# Altium footprint library Connector_PinHeader_2.00mm.PcbLib: 278 footprints (part 10 of 18)
Each footprint in its own frame and in the unit in brackets; x right, y up, seen from the top. Pads: shape width x height; smd on the part's side, far side on the other; paste and mask are expansions set on the pad; w line width, h text height; cw(c..) or ccw(c..) is an arc to the next point about the centre after c.
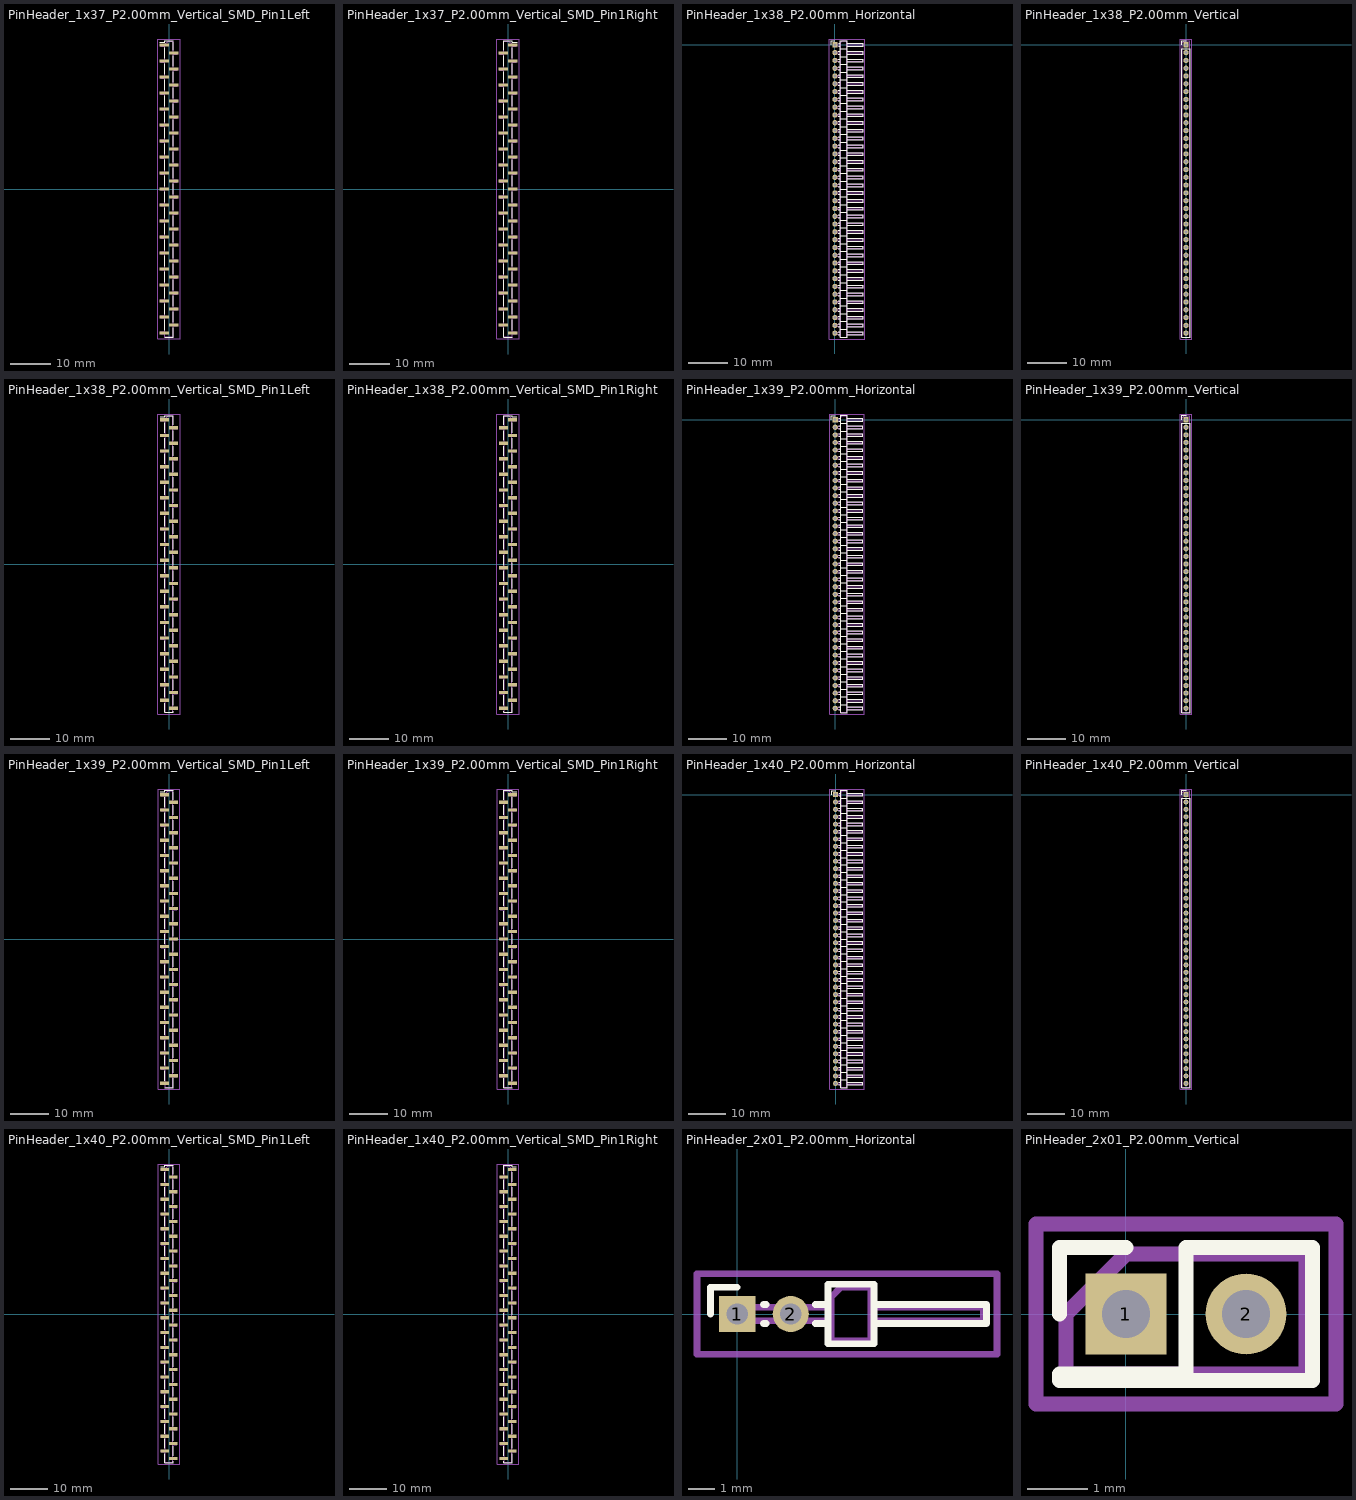
[diagram p9: the footprints below, top view; thin cyan lines are the x and y axes]

## PinHeader_1x37_P2.00mm_Vertical_SMD_Pin1Left [mm]
pads (37):
  rect 2.35x0.85 smd: 1(-1.175,36) 2(1.175,34) 3(-1.175,32) 4(1.175,30) 5(-1.175,28) 6(1.175,26) 7(-1.175,24) 8(1.175,22) 9(-1.175,20) 10(1.175,18) 11(-1.175,16) 12(1.175,14) 13(-1.175,12) 14(1.175,10) 15(-1.175,8) 16(1.175,6) 17(-1.175,4) 18(1.175,2) 19(-1.175,0) 20(1.175,-2) 21(-1.175,-4) 22(1.175,-6) 23(-1.175,-8) 24(1.175,-10) 25(-1.175,-12) 26(1.175,-14) 27(-1.175,-16) 28(1.175,-18) 29(-1.175,-20) 30(1.175,-22) 31(-1.175,-24) 32(1.175,-26) 33(-1.175,-28) 34(1.175,-30) 35(-1.175,-32) 36(1.175,-34) 37(-1.175,-36)
F.SilkS:
  lines w0.254: -2.29,36.735 -1.11,36.735 -1.11,37.11 1.11,37.11 ; -1.11,-37.11 1.11,-37.11 ; -1.11,-35.265 -1.11,-32.735 ; -1.11,-31.265 -1.11,-28.735 ; -1.11,-27.265 -1.11,-24.735 ; -1.11,-23.265 -1.11,-20.735 ; -1.11,-19.265 -1.11,-16.735 ; -1.11,-15.265 -1.11,-12.735 ; -1.11,-11.265 -1.11,-8.735 ; -1.11,-7.265 -1.11,-4.735 ; -1.11,-3.265 -1.11,-0.735 ; -1.11,0.735 -1.11,3.265 ; -1.11,4.735 -1.11,7.265 ; -1.11,8.735 -1.11,11.265 ; -1.11,12.735 -1.11,15.265 ; -1.11,16.735 -1.11,19.265 ; -1.11,20.735 -1.11,23.265 ; -1.11,24.735 -1.11,27.265 ; -1.11,28.735 -1.11,31.265 ; -1.11,32.735 -1.11,35.265 ; 1.11,-36.735 1.11,-37.11 ; 1.11,-34.735 1.11,-37.11 ; 1.11,-33.265 1.11,-30.735 ; 1.11,-29.265 1.11,-26.735 ; 1.11,-25.265 1.11,-22.735 ; 1.11,-21.265 1.11,-18.735 ; 1.11,-17.265 1.11,-14.735 ; 1.11,-13.265 1.11,-10.735 ; 1.11,-9.265 1.11,-6.735 ; 1.11,-5.265 1.11,-2.735 ; 1.11,-1.265 1.11,1.265 ; 1.11,2.735 1.11,5.265 ; 1.11,6.735 1.11,9.265 ; 1.11,10.735 1.11,13.265 ; 1.11,14.735 1.11,17.265 ; 1.11,18.735 1.11,21.265 ; 1.11,22.735 1.11,25.265 ; 1.11,26.735 1.11,29.265 ; 1.11,30.735 1.11,33.265 ; 1.11,34.735 1.11,36.735
Top Assembly:
  lines w0.254: -1,-36.25 -2.1,-36.25 -2.1,-35.75 -1,-35.75 ; -1,-32.25 -2.1,-32.25 -2.1,-31.75 -1,-31.75 ; -1,-28.25 -2.1,-28.25 -2.1,-27.75 -1,-27.75 ; -1,-24.25 -2.1,-24.25 -2.1,-23.75 -1,-23.75 ; -1,-20.25 -2.1,-20.25 -2.1,-19.75 -1,-19.75 ; -1,-16.25 -2.1,-16.25 -2.1,-15.75 -1,-15.75 ; -1,-12.25 -2.1,-12.25 -2.1,-11.75 -1,-11.75 ; -1,-8.25 -2.1,-8.25 -2.1,-7.75 -1,-7.75 ; -1,-4.25 -2.1,-4.25 -2.1,-3.75 -1,-3.75 ; -1,-0.25 -2.1,-0.25 -2.1,0.25 -1,0.25 ; -1,3.75 -2.1,3.75 -2.1,4.25 -1,4.25 ; -1,7.75 -2.1,7.75 -2.1,8.25 -1,8.25 ; -1,11.75 -2.1,11.75 -2.1,12.25 -1,12.25 ; -1,15.75 -2.1,15.75 -2.1,16.25 -1,16.25 ; -1,19.75 -2.1,19.75 -2.1,20.25 -1,20.25 ; -1,23.75 -2.1,23.75 -2.1,24.25 -1,24.25 ; -1,27.75 -2.1,27.75 -2.1,28.25 -1,28.25 ; -1,31.75 -2.1,31.75 -2.1,32.25 -1,32.25 ; -1,35.75 -2.1,35.75 -2.1,36.25 -1,36.25 ; 1,-34.25 2.1,-34.25 2.1,-33.75 1,-33.75 ; 1,-30.25 2.1,-30.25 2.1,-29.75 1,-29.75 ; 1,-26.25 2.1,-26.25 2.1,-25.75 1,-25.75 ; 1,-22.25 2.1,-22.25 2.1,-21.75 1,-21.75 ; 1,-18.25 2.1,-18.25 2.1,-17.75 1,-17.75 ; 1,-14.25 2.1,-14.25 2.1,-13.75 1,-13.75 ; 1,-10.25 2.1,-10.25 2.1,-9.75 1,-9.75 ; 1,-6.25 2.1,-6.25 2.1,-5.75 1,-5.75 ; 1,-2.25 2.1,-2.25 2.1,-1.75 1,-1.75 ; 1,1.75 2.1,1.75 2.1,2.25 1,2.25 ; 1,5.75 2.1,5.75 2.1,6.25 1,6.25 ; 1,9.75 2.1,9.75 2.1,10.25 1,10.25 ; 1,13.75 2.1,13.75 2.1,14.25 1,14.25 ; 1,17.75 2.1,17.75 2.1,18.25 1,18.25 ; 1,21.75 2.1,21.75 2.1,22.25 1,22.25 ; 1,25.75 2.1,25.75 2.1,26.25 1,26.25 ; 1,29.75 2.1,29.75 2.1,30.25 1,30.25 ; 1,33.75 2.1,33.75 2.1,34.25 1,34.25 ; -1,36.25 -1,-37 1,-37 1,37 -0.25,37 -1,36.25
  text "'.Designator'" at 0.84,-4.047 h1
Top Courtyard:
  lines w0.254: -2.85,-37.5 2.85,-37.5 2.85,37.5 -2.85,37.5 -2.85,-37.5
Top Designator:
  text ".Designator" at -7.618,-0.508 h1.52

## PinHeader_1x37_P2.00mm_Vertical_SMD_Pin1Right [mm]
pads (37):
  rect 2.35x0.85 smd: 1(1.175,36) 2(-1.175,34) 3(1.175,32) 4(-1.175,30) 5(1.175,28) 6(-1.175,26) 7(1.175,24) 8(-1.175,22) 9(1.175,20) 10(-1.175,18) 11(1.175,16) 12(-1.175,14) 13(1.175,12) 14(-1.175,10) 15(1.175,8) 16(-1.175,6) 17(1.175,4) 18(-1.175,2) 19(1.175,0) 20(-1.175,-2) 21(1.175,-4) 22(-1.175,-6) 23(1.175,-8) 24(-1.175,-10) 25(1.175,-12) 26(-1.175,-14) 27(1.175,-16) 28(-1.175,-18) 29(1.175,-20) 30(-1.175,-22) 31(1.175,-24) 32(-1.175,-26) 33(1.175,-28) 34(-1.175,-30) 35(1.175,-32) 36(-1.175,-34) 37(1.175,-36)
F.SilkS:
  lines w0.254: -1.11,-36.735 -1.11,-37.11 ; -1.11,-34.735 -1.11,-37.11 ; -1.11,-33.265 -1.11,-30.735 ; -1.11,-29.265 -1.11,-26.735 ; -1.11,-25.265 -1.11,-22.735 ; -1.11,-21.265 -1.11,-18.735 ; -1.11,-17.265 -1.11,-14.735 ; -1.11,-13.265 -1.11,-10.735 ; -1.11,-9.265 -1.11,-6.735 ; -1.11,-5.265 -1.11,-2.735 ; -1.11,-1.265 -1.11,1.265 ; -1.11,2.735 -1.11,5.265 ; -1.11,6.735 -1.11,9.265 ; -1.11,10.735 -1.11,13.265 ; -1.11,14.735 -1.11,17.265 ; -1.11,18.735 -1.11,21.265 ; -1.11,22.735 -1.11,25.265 ; -1.11,26.735 -1.11,29.265 ; -1.11,30.735 -1.11,33.265 ; -1.11,36.735 -1.11,34.735 -1.11,37.11 1.11,37.11 1.11,36.735 2.29,36.735 ; 1.11,-37.11 -1.11,-37.11 ; 1.11,-35.265 1.11,-32.735 ; 1.11,-31.265 1.11,-28.735 ; 1.11,-27.265 1.11,-24.735 ; 1.11,-23.265 1.11,-20.735 ; 1.11,-19.265 1.11,-16.735 ; 1.11,-15.265 1.11,-12.735 ; 1.11,-11.265 1.11,-8.735 ; 1.11,-7.265 1.11,-4.735 ; 1.11,-3.265 1.11,-0.735 ; 1.11,0.735 1.11,3.265 ; 1.11,4.735 1.11,7.265 ; 1.11,8.735 1.11,11.265 ; 1.11,12.735 1.11,15.265 ; 1.11,16.735 1.11,19.265 ; 1.11,20.735 1.11,23.265 ; 1.11,24.735 1.11,27.265 ; 1.11,28.735 1.11,31.265 ; 1.11,32.735 1.11,35.265
Top Assembly:
  lines w0.254: -1,-34.25 -2.1,-34.25 -2.1,-33.75 -1,-33.75 ; -1,-30.25 -2.1,-30.25 -2.1,-29.75 -1,-29.75 ; -1,-26.25 -2.1,-26.25 -2.1,-25.75 -1,-25.75 ; -1,-22.25 -2.1,-22.25 -2.1,-21.75 -1,-21.75 ; -1,-18.25 -2.1,-18.25 -2.1,-17.75 -1,-17.75 ; -1,-14.25 -2.1,-14.25 -2.1,-13.75 -1,-13.75 ; -1,-10.25 -2.1,-10.25 -2.1,-9.75 -1,-9.75 ; -1,-6.25 -2.1,-6.25 -2.1,-5.75 -1,-5.75 ; -1,-2.25 -2.1,-2.25 -2.1,-1.75 -1,-1.75 ; -1,1.75 -2.1,1.75 -2.1,2.25 -1,2.25 ; -1,5.75 -2.1,5.75 -2.1,6.25 -1,6.25 ; -1,9.75 -2.1,9.75 -2.1,10.25 -1,10.25 ; -1,13.75 -2.1,13.75 -2.1,14.25 -1,14.25 ; -1,17.75 -2.1,17.75 -2.1,18.25 -1,18.25 ; -1,21.75 -2.1,21.75 -2.1,22.25 -1,22.25 ; -1,25.75 -2.1,25.75 -2.1,26.25 -1,26.25 ; -1,29.75 -2.1,29.75 -2.1,30.25 -1,30.25 ; -1,33.75 -2.1,33.75 -2.1,34.25 -1,34.25 ; 1,-36.25 2.1,-36.25 2.1,-35.75 1,-35.75 ; 1,-32.25 2.1,-32.25 2.1,-31.75 1,-31.75 ; 1,-28.25 2.1,-28.25 2.1,-27.75 1,-27.75 ; 1,-24.25 2.1,-24.25 2.1,-23.75 1,-23.75 ; 1,-20.25 2.1,-20.25 2.1,-19.75 1,-19.75 ; 1,-16.25 2.1,-16.25 2.1,-15.75 1,-15.75 ; 1,-12.25 2.1,-12.25 2.1,-11.75 1,-11.75 ; 1,-8.25 2.1,-8.25 2.1,-7.75 1,-7.75 ; 1,-4.25 2.1,-4.25 2.1,-3.75 1,-3.75 ; 1,-0.25 2.1,-0.25 2.1,0.25 1,0.25 ; 1,3.75 2.1,3.75 2.1,4.25 1,4.25 ; 1,7.75 2.1,7.75 2.1,8.25 1,8.25 ; 1,11.75 2.1,11.75 2.1,12.25 1,12.25 ; 1,15.75 2.1,15.75 2.1,16.25 1,16.25 ; 1,19.75 2.1,19.75 2.1,20.25 1,20.25 ; 1,23.75 2.1,23.75 2.1,24.25 1,24.25 ; 1,27.75 2.1,27.75 2.1,28.25 1,28.25 ; 1,31.75 2.1,31.75 2.1,32.25 1,32.25 ; 1,35.75 2.1,35.75 2.1,36.25 1,36.25 ; 1,36.25 1,-37 -1,-37 -1,37 0.25,37 1,36.25
  text "'.Designator'" at 0.84,-4.047 h1
Top Courtyard:
  lines w0.254: -2.85,-37.5 2.85,-37.5 2.85,37.5 -2.85,37.5 -2.85,-37.5
Top Designator:
  text ".Designator" at -7.618,-0.508 h1.52

## PinHeader_1x38_P2.00mm_Horizontal [mm]
pads (38):
  rect 1.35x1.35 hole 0.8: 1(0,0)
  round 1.35 hole 0.8: 2(0,-2) 3(0,-4) 4(0,-6) 5(0,-8) 6(0,-10) 7(0,-12) 8(0,-14) 9(0,-16) 10(0,-18) 11(0,-20) 12(0,-22) 13(0,-24) 14(0,-26) 15(0,-28) 16(0,-30) 17(0,-32) 18(0,-34) 19(0,-36) 20(0,-38) 21(0,-40) 22(0,-42) 23(0,-44) 24(0,-46) 25(0,-48) 26(0,-50) 27(0,-52) 28(0,-54) 29(0,-56) 30(0,-58) 31(0,-60) 32(0,-62) 33(0,-64) 34(0,-66) 35(0,-68) 36(0,-70) 37(0,-72) 38(0,-74)
F.SilkS:
  drawing of 234 lines, arcs and shapes, not listed
Top Assembly:
  drawing of 233 lines, arcs and shapes, not listed
  text "'.Designator'" at 3.006,-40.642 h0.9
Top Courtyard:
  lines w0.254: -1.5,-75.5 7.7,-75.5 7.7,1.5 -1.5,1.5 -1.5,-75.5
Top Designator:
  text ".Designator" at -4.518,-37.508 h1.52

## PinHeader_1x38_P2.00mm_Vertical [mm]
pads (38):
  rect 1.35x1.35 hole 0.8: 1(0,0)
  round 1.35 hole 0.8: 2(0,-2) 3(0,-4) 4(0,-6) 5(0,-8) 6(0,-10) 7(0,-12) 8(0,-14) 9(0,-16) 10(0,-18) 11(0,-20) 12(0,-22) 13(0,-24) 14(0,-26) 15(0,-28) 16(0,-30) 17(0,-32) 18(0,-34) 19(0,-36) 20(0,-38) 21(0,-40) 22(0,-42) 23(0,-44) 24(0,-46) 25(0,-48) 26(0,-50) 27(0,-52) 28(0,-54) 29(0,-56) 30(0,-58) 31(0,-60) 32(0,-62) 33(0,-64) 34(0,-66) 35(0,-68) 36(0,-70) 37(0,-72) 38(0,-74)
F.SilkS:
  lines w0.254: -1.11,0 -1.11,1.11 0,1.11 ; -1.11,-75.11 1.11,-75.11 1.11,-1 -1.11,-1 -1.11,-75.11
Top Assembly:
  lines w0.254: -1,-75 1,-75 1,1 -0.5,1 -1,0.5 -1,-75
  text "'.Designator'" at 0.84,-41.047 h1
Top Courtyard:
  lines w0.254: -1.5,-75.5 1.5,-75.5 1.5,1.5 -1.5,1.5 -1.5,-75.5
Top Designator:
  text ".Designator" at -7.618,-37.508 h1.52

## PinHeader_1x38_P2.00mm_Vertical_SMD_Pin1Left [mm]
pads (38):
  rect 2.35x0.85 smd: 1(-1.175,37) 2(1.175,35) 3(-1.175,33) 4(1.175,31) 5(-1.175,29) 6(1.175,27) 7(-1.175,25) 8(1.175,23) 9(-1.175,21) 10(1.175,19) 11(-1.175,17) 12(1.175,15) 13(-1.175,13) 14(1.175,11) 15(-1.175,9) 16(1.175,7) 17(-1.175,5) 18(1.175,3) 19(-1.175,1) 20(1.175,-1) 21(-1.175,-3) 22(1.175,-5) 23(-1.175,-7) 24(1.175,-9) 25(-1.175,-11) 26(1.175,-13) 27(-1.175,-15) 28(1.175,-17) 29(-1.175,-19) 30(1.175,-21) 31(-1.175,-23) 32(1.175,-25) 33(-1.175,-27) 34(1.175,-29) 35(-1.175,-31) 36(1.175,-33) 37(-1.175,-35) 38(1.175,-37)
F.SilkS:
  lines w0.254: -2.29,37.735 -1.11,37.735 -1.11,38.11 1.11,38.11 ; -1.11,-35.735 -1.11,-38.11 1.11,-38.11 1.11,-37.735 ; -1.11,-34.265 -1.11,-31.735 ; -1.11,-30.265 -1.11,-27.735 ; -1.11,-26.265 -1.11,-23.735 ; -1.11,-22.265 -1.11,-19.735 ; -1.11,-18.265 -1.11,-15.735 ; -1.11,-14.265 -1.11,-11.735 ; -1.11,-10.265 -1.11,-7.735 ; -1.11,-6.265 -1.11,-3.735 ; -1.11,-2.265 -1.11,0.265 ; -1.11,1.735 -1.11,4.265 ; -1.11,5.735 -1.11,8.265 ; -1.11,9.735 -1.11,12.265 ; -1.11,13.735 -1.11,16.265 ; -1.11,17.735 -1.11,20.265 ; -1.11,21.735 -1.11,24.265 ; -1.11,25.735 -1.11,28.265 ; -1.11,29.735 -1.11,32.265 ; -1.11,33.735 -1.11,36.265 ; 1.11,-36.265 1.11,-33.735 ; 1.11,-32.265 1.11,-29.735 ; 1.11,-28.265 1.11,-25.735 ; 1.11,-24.265 1.11,-21.735 ; 1.11,-20.265 1.11,-17.735 ; 1.11,-16.265 1.11,-13.735 ; 1.11,-12.265 1.11,-9.735 ; 1.11,-8.265 1.11,-5.735 ; 1.11,-4.265 1.11,-1.735 ; 1.11,-0.265 1.11,2.265 ; 1.11,3.735 1.11,6.265 ; 1.11,7.735 1.11,10.265 ; 1.11,11.735 1.11,14.265 ; 1.11,15.735 1.11,18.265 ; 1.11,19.735 1.11,22.265 ; 1.11,23.735 1.11,26.265 ; 1.11,27.735 1.11,30.265 ; 1.11,31.735 1.11,34.265 ; 1.11,35.735 1.11,37.735
Top Assembly:
  lines w0.254: -1,-35.25 -2.1,-35.25 -2.1,-34.75 -1,-34.75 ; -1,-31.25 -2.1,-31.25 -2.1,-30.75 -1,-30.75 ; -1,-27.25 -2.1,-27.25 -2.1,-26.75 -1,-26.75 ; -1,-23.25 -2.1,-23.25 -2.1,-22.75 -1,-22.75 ; -1,-19.25 -2.1,-19.25 -2.1,-18.75 -1,-18.75 ; -1,-15.25 -2.1,-15.25 -2.1,-14.75 -1,-14.75 ; -1,-11.25 -2.1,-11.25 -2.1,-10.75 -1,-10.75 ; -1,-7.25 -2.1,-7.25 -2.1,-6.75 -1,-6.75 ; -1,-3.25 -2.1,-3.25 -2.1,-2.75 -1,-2.75 ; -1,0.75 -2.1,0.75 -2.1,1.25 -1,1.25 ; -1,4.75 -2.1,4.75 -2.1,5.25 -1,5.25 ; -1,8.75 -2.1,8.75 -2.1,9.25 -1,9.25 ; -1,12.75 -2.1,12.75 -2.1,13.25 -1,13.25 ; -1,16.75 -2.1,16.75 -2.1,17.25 -1,17.25 ; -1,20.75 -2.1,20.75 -2.1,21.25 -1,21.25 ; -1,24.75 -2.1,24.75 -2.1,25.25 -1,25.25 ; -1,28.75 -2.1,28.75 -2.1,29.25 -1,29.25 ; -1,32.75 -2.1,32.75 -2.1,33.25 -1,33.25 ; -1,36.75 -2.1,36.75 -2.1,37.25 -1,37.25 ; 1,-37.25 2.1,-37.25 2.1,-36.75 1,-36.75 ; 1,-33.25 2.1,-33.25 2.1,-32.75 1,-32.75 ; 1,-29.25 2.1,-29.25 2.1,-28.75 1,-28.75 ; 1,-25.25 2.1,-25.25 2.1,-24.75 1,-24.75 ; 1,-21.25 2.1,-21.25 2.1,-20.75 1,-20.75 ; 1,-17.25 2.1,-17.25 2.1,-16.75 1,-16.75 ; 1,-13.25 2.1,-13.25 2.1,-12.75 1,-12.75 ; 1,-9.25 2.1,-9.25 2.1,-8.75 1,-8.75 ; 1,-5.25 2.1,-5.25 2.1,-4.75 1,-4.75 ; 1,-1.25 2.1,-1.25 2.1,-0.75 1,-0.75 ; 1,2.75 2.1,2.75 2.1,3.25 1,3.25 ; 1,6.75 2.1,6.75 2.1,7.25 1,7.25 ; 1,10.75 2.1,10.75 2.1,11.25 1,11.25 ; 1,14.75 2.1,14.75 2.1,15.25 1,15.25 ; 1,18.75 2.1,18.75 2.1,19.25 1,19.25 ; 1,22.75 2.1,22.75 2.1,23.25 1,23.25 ; 1,26.75 2.1,26.75 2.1,27.25 1,27.25 ; 1,30.75 2.1,30.75 2.1,31.25 1,31.25 ; 1,34.75 2.1,34.75 2.1,35.25 1,35.25 ; -1,37.25 -1,-38 1,-38 1,38 -0.25,38 -1,37.25
  text "'.Designator'" at 0.84,-4.047 h1
Top Courtyard:
  lines w0.254: -2.85,-38.5 2.85,-38.5 2.85,38.5 -2.85,38.5 -2.85,-38.5
Top Designator:
  text ".Designator" at -7.618,-0.508 h1.52

## PinHeader_1x38_P2.00mm_Vertical_SMD_Pin1Right [mm]
pads (38):
  rect 2.35x0.85 smd: 1(1.175,37) 2(-1.175,35) 3(1.175,33) 4(-1.175,31) 5(1.175,29) 6(-1.175,27) 7(1.175,25) 8(-1.175,23) 9(1.175,21) 10(-1.175,19) 11(1.175,17) 12(-1.175,15) 13(1.175,13) 14(-1.175,11) 15(1.175,9) 16(-1.175,7) 17(1.175,5) 18(-1.175,3) 19(1.175,1) 20(-1.175,-1) 21(1.175,-3) 22(-1.175,-5) 23(1.175,-7) 24(-1.175,-9) 25(1.175,-11) 26(-1.175,-13) 27(1.175,-15) 28(-1.175,-17) 29(1.175,-19) 30(-1.175,-21) 31(1.175,-23) 32(-1.175,-25) 33(1.175,-27) 34(-1.175,-29) 35(1.175,-31) 36(-1.175,-33) 37(1.175,-35) 38(-1.175,-37)
F.SilkS:
  lines w0.254: -1.11,-37.735 -1.11,-38.11 1.11,-38.11 1.11,-35.735 ; -1.11,-36.265 -1.11,-33.735 ; -1.11,-32.265 -1.11,-29.735 ; -1.11,-28.265 -1.11,-25.735 ; -1.11,-24.265 -1.11,-21.735 ; -1.11,-20.265 -1.11,-17.735 ; -1.11,-16.265 -1.11,-13.735 ; -1.11,-12.265 -1.11,-9.735 ; -1.11,-8.265 -1.11,-5.735 ; -1.11,-4.265 -1.11,-1.735 ; -1.11,-0.265 -1.11,2.265 ; -1.11,3.735 -1.11,6.265 ; -1.11,7.735 -1.11,10.265 ; -1.11,11.735 -1.11,14.265 ; -1.11,15.735 -1.11,18.265 ; -1.11,19.735 -1.11,22.265 ; -1.11,23.735 -1.11,26.265 ; -1.11,27.735 -1.11,30.265 ; -1.11,31.735 -1.11,34.265 ; -1.11,37.735 -1.11,35.735 -1.11,38.11 1.11,38.11 1.11,37.735 2.29,37.735 ; 1.11,-34.265 1.11,-31.735 ; 1.11,-30.265 1.11,-27.735 ; 1.11,-26.265 1.11,-23.735 ; 1.11,-22.265 1.11,-19.735 ; 1.11,-18.265 1.11,-15.735 ; 1.11,-14.265 1.11,-11.735 ; 1.11,-10.265 1.11,-7.735 ; 1.11,-6.265 1.11,-3.735 ; 1.11,-2.265 1.11,0.265 ; 1.11,1.735 1.11,4.265 ; 1.11,5.735 1.11,8.265 ; 1.11,9.735 1.11,12.265 ; 1.11,13.735 1.11,16.265 ; 1.11,17.735 1.11,20.265 ; 1.11,21.735 1.11,24.265 ; 1.11,25.735 1.11,28.265 ; 1.11,29.735 1.11,32.265 ; 1.11,33.735 1.11,36.265
Top Assembly:
  lines w0.254: -1,-37.25 -2.1,-37.25 -2.1,-36.75 -1,-36.75 ; -1,-33.25 -2.1,-33.25 -2.1,-32.75 -1,-32.75 ; -1,-29.25 -2.1,-29.25 -2.1,-28.75 -1,-28.75 ; -1,-25.25 -2.1,-25.25 -2.1,-24.75 -1,-24.75 ; -1,-21.25 -2.1,-21.25 -2.1,-20.75 -1,-20.75 ; -1,-17.25 -2.1,-17.25 -2.1,-16.75 -1,-16.75 ; -1,-13.25 -2.1,-13.25 -2.1,-12.75 -1,-12.75 ; -1,-9.25 -2.1,-9.25 -2.1,-8.75 -1,-8.75 ; -1,-5.25 -2.1,-5.25 -2.1,-4.75 -1,-4.75 ; -1,-1.25 -2.1,-1.25 -2.1,-0.75 -1,-0.75 ; -1,2.75 -2.1,2.75 -2.1,3.25 -1,3.25 ; -1,6.75 -2.1,6.75 -2.1,7.25 -1,7.25 ; -1,10.75 -2.1,10.75 -2.1,11.25 -1,11.25 ; -1,14.75 -2.1,14.75 -2.1,15.25 -1,15.25 ; -1,18.75 -2.1,18.75 -2.1,19.25 -1,19.25 ; -1,22.75 -2.1,22.75 -2.1,23.25 -1,23.25 ; -1,26.75 -2.1,26.75 -2.1,27.25 -1,27.25 ; -1,30.75 -2.1,30.75 -2.1,31.25 -1,31.25 ; -1,34.75 -2.1,34.75 -2.1,35.25 -1,35.25 ; 1,-35.25 2.1,-35.25 2.1,-34.75 1,-34.75 ; 1,-31.25 2.1,-31.25 2.1,-30.75 1,-30.75 ; 1,-27.25 2.1,-27.25 2.1,-26.75 1,-26.75 ; 1,-23.25 2.1,-23.25 2.1,-22.75 1,-22.75 ; 1,-19.25 2.1,-19.25 2.1,-18.75 1,-18.75 ; 1,-15.25 2.1,-15.25 2.1,-14.75 1,-14.75 ; 1,-11.25 2.1,-11.25 2.1,-10.75 1,-10.75 ; 1,-7.25 2.1,-7.25 2.1,-6.75 1,-6.75 ; 1,-3.25 2.1,-3.25 2.1,-2.75 1,-2.75 ; 1,0.75 2.1,0.75 2.1,1.25 1,1.25 ; 1,4.75 2.1,4.75 2.1,5.25 1,5.25 ; 1,8.75 2.1,8.75 2.1,9.25 1,9.25 ; 1,12.75 2.1,12.75 2.1,13.25 1,13.25 ; 1,16.75 2.1,16.75 2.1,17.25 1,17.25 ; 1,20.75 2.1,20.75 2.1,21.25 1,21.25 ; 1,24.75 2.1,24.75 2.1,25.25 1,25.25 ; 1,28.75 2.1,28.75 2.1,29.25 1,29.25 ; 1,32.75 2.1,32.75 2.1,33.25 1,33.25 ; 1,36.75 2.1,36.75 2.1,37.25 1,37.25 ; 1,37.25 1,-38 -1,-38 -1,38 0.25,38 1,37.25
  text "'.Designator'" at 0.84,-4.047 h1
Top Courtyard:
  lines w0.254: -2.85,-38.5 2.85,-38.5 2.85,38.5 -2.85,38.5 -2.85,-38.5
Top Designator:
  text ".Designator" at -7.618,-0.508 h1.52

## PinHeader_1x39_P2.00mm_Horizontal [mm]
pads (39):
  rect 1.35x1.35 hole 0.8: 1(0,0)
  round 1.35 hole 0.8: 2(0,-2) 3(0,-4) 4(0,-6) 5(0,-8) 6(0,-10) 7(0,-12) 8(0,-14) 9(0,-16) 10(0,-18) 11(0,-20) 12(0,-22) 13(0,-24) 14(0,-26) 15(0,-28) 16(0,-30) 17(0,-32) 18(0,-34) 19(0,-36) 20(0,-38) 21(0,-40) 22(0,-42) 23(0,-44) 24(0,-46) 25(0,-48) 26(0,-50) 27(0,-52) 28(0,-54) 29(0,-56) 30(0,-58) 31(0,-60) 32(0,-62) 33(0,-64) 34(0,-66) 35(0,-68) 36(0,-70) 37(0,-72) 38(0,-74) 39(0,-76)
F.SilkS:
  drawing of 240 lines, arcs and shapes, not listed
Top Assembly:
  drawing of 239 lines, arcs and shapes, not listed
  text "'.Designator'" at 3.006,-41.642 h0.9
Top Courtyard:
  lines w0.254: -1.5,-77.5 7.7,-77.5 7.7,1.5 -1.5,1.5 -1.5,-77.5
Top Designator:
  text ".Designator" at -4.518,-38.508 h1.52

## PinHeader_1x39_P2.00mm_Vertical [mm]
pads (39):
  rect 1.35x1.35 hole 0.8: 1(0,0)
  round 1.35 hole 0.8: 2(0,-2) 3(0,-4) 4(0,-6) 5(0,-8) 6(0,-10) 7(0,-12) 8(0,-14) 9(0,-16) 10(0,-18) 11(0,-20) 12(0,-22) 13(0,-24) 14(0,-26) 15(0,-28) 16(0,-30) 17(0,-32) 18(0,-34) 19(0,-36) 20(0,-38) 21(0,-40) 22(0,-42) 23(0,-44) 24(0,-46) 25(0,-48) 26(0,-50) 27(0,-52) 28(0,-54) 29(0,-56) 30(0,-58) 31(0,-60) 32(0,-62) 33(0,-64) 34(0,-66) 35(0,-68) 36(0,-70) 37(0,-72) 38(0,-74) 39(0,-76)
F.SilkS:
  lines w0.254: -1.11,0 -1.11,1.11 0,1.11 ; -1.11,-77.11 1.11,-77.11 1.11,-1 -1.11,-1 -1.11,-77.11
Top Assembly:
  lines w0.254: -1,-77 1,-77 1,1 -0.5,1 -1,0.5 -1,-77
  text "'.Designator'" at 0.84,-42.047 h1
Top Courtyard:
  lines w0.254: -1.5,-77.5 1.5,-77.5 1.5,1.5 -1.5,1.5 -1.5,-77.5
Top Designator:
  text ".Designator" at -7.618,-38.508 h1.52

## PinHeader_1x39_P2.00mm_Vertical_SMD_Pin1Left [mm]
pads (39):
  rect 2.35x0.85 smd: 1(-1.175,38) 2(1.175,36) 3(-1.175,34) 4(1.175,32) 5(-1.175,30) 6(1.175,28) 7(-1.175,26) 8(1.175,24) 9(-1.175,22) 10(1.175,20) 11(-1.175,18) 12(1.175,16) 13(-1.175,14) 14(1.175,12) 15(-1.175,10) 16(1.175,8) 17(-1.175,6) 18(1.175,4) 19(-1.175,2) 20(1.175,0) 21(-1.175,-2) 22(1.175,-4) 23(-1.175,-6) 24(1.175,-8) 25(-1.175,-10) 26(1.175,-12) 27(-1.175,-14) 28(1.175,-16) 29(-1.175,-18) 30(1.175,-20) 31(-1.175,-22) 32(1.175,-24) 33(-1.175,-26) 34(1.175,-28) 35(-1.175,-30) 36(1.175,-32) 37(-1.175,-34) 38(1.175,-36) 39(-1.175,-38)
F.SilkS:
  lines w0.254: -2.29,38.735 -1.11,38.735 -1.11,39.11 1.11,39.11 ; -1.11,-39.11 1.11,-39.11 ; -1.11,-37.265 -1.11,-34.735 ; -1.11,-33.265 -1.11,-30.735 ; -1.11,-29.265 -1.11,-26.735 ; -1.11,-25.265 -1.11,-22.735 ; -1.11,-21.265 -1.11,-18.735 ; -1.11,-17.265 -1.11,-14.735 ; -1.11,-13.265 -1.11,-10.735 ; -1.11,-9.265 -1.11,-6.735 ; -1.11,-5.265 -1.11,-2.735 ; -1.11,-1.265 -1.11,1.265 ; -1.11,2.735 -1.11,5.265 ; -1.11,6.735 -1.11,9.265 ; -1.11,10.735 -1.11,13.265 ; -1.11,14.735 -1.11,17.265 ; -1.11,18.735 -1.11,21.265 ; -1.11,22.735 -1.11,25.265 ; -1.11,26.735 -1.11,29.265 ; -1.11,30.735 -1.11,33.265 ; -1.11,34.735 -1.11,37.265 ; 1.11,-38.735 1.11,-39.11 ; 1.11,-36.735 1.11,-39.11 ; 1.11,-35.265 1.11,-32.735 ; 1.11,-31.265 1.11,-28.735 ; 1.11,-27.265 1.11,-24.735 ; 1.11,-23.265 1.11,-20.735 ; 1.11,-19.265 1.11,-16.735 ; 1.11,-15.265 1.11,-12.735 ; 1.11,-11.265 1.11,-8.735 ; 1.11,-7.265 1.11,-4.735 ; 1.11,-3.265 1.11,-0.735 ; 1.11,0.735 1.11,3.265 ; 1.11,4.735 1.11,7.265 ; 1.11,8.735 1.11,11.265 ; 1.11,12.735 1.11,15.265 ; 1.11,16.735 1.11,19.265 ; 1.11,20.735 1.11,23.265 ; 1.11,24.735 1.11,27.265 ; 1.11,28.735 1.11,31.265 ; 1.11,32.735 1.11,35.265 ; 1.11,36.735 1.11,38.735
Top Assembly:
  lines w0.254: -1,-38.25 -2.1,-38.25 -2.1,-37.75 -1,-37.75 ; -1,-34.25 -2.1,-34.25 -2.1,-33.75 -1,-33.75 ; -1,-30.25 -2.1,-30.25 -2.1,-29.75 -1,-29.75 ; -1,-26.25 -2.1,-26.25 -2.1,-25.75 -1,-25.75 ; -1,-22.25 -2.1,-22.25 -2.1,-21.75 -1,-21.75 ; -1,-18.25 -2.1,-18.25 -2.1,-17.75 -1,-17.75 ; -1,-14.25 -2.1,-14.25 -2.1,-13.75 -1,-13.75 ; -1,-10.25 -2.1,-10.25 -2.1,-9.75 -1,-9.75 ; -1,-6.25 -2.1,-6.25 -2.1,-5.75 -1,-5.75 ; -1,-2.25 -2.1,-2.25 -2.1,-1.75 -1,-1.75 ; -1,1.75 -2.1,1.75 -2.1,2.25 -1,2.25 ; -1,5.75 -2.1,5.75 -2.1,6.25 -1,6.25 ; -1,9.75 -2.1,9.75 -2.1,10.25 -1,10.25 ; -1,13.75 -2.1,13.75 -2.1,14.25 -1,14.25 ; -1,17.75 -2.1,17.75 -2.1,18.25 -1,18.25 ; -1,21.75 -2.1,21.75 -2.1,22.25 -1,22.25 ; -1,25.75 -2.1,25.75 -2.1,26.25 -1,26.25 ; -1,29.75 -2.1,29.75 -2.1,30.25 -1,30.25 ; -1,33.75 -2.1,33.75 -2.1,34.25 -1,34.25 ; -1,37.75 -2.1,37.75 -2.1,38.25 -1,38.25 ; 1,-36.25 2.1,-36.25 2.1,-35.75 1,-35.75 ; 1,-32.25 2.1,-32.25 2.1,-31.75 1,-31.75 ; 1,-28.25 2.1,-28.25 2.1,-27.75 1,-27.75 ; 1,-24.25 2.1,-24.25 2.1,-23.75 1,-23.75 ; 1,-20.25 2.1,-20.25 2.1,-19.75 1,-19.75 ; 1,-16.25 2.1,-16.25 2.1,-15.75 1,-15.75 ; 1,-12.25 2.1,-12.25 2.1,-11.75 1,-11.75 ; 1,-8.25 2.1,-8.25 2.1,-7.75 1,-7.75 ; 1,-4.25 2.1,-4.25 2.1,-3.75 1,-3.75 ; 1,-0.25 2.1,-0.25 2.1,0.25 1,0.25 ; 1,3.75 2.1,3.75 2.1,4.25 1,4.25 ; 1,7.75 2.1,7.75 2.1,8.25 1,8.25 ; 1,11.75 2.1,11.75 2.1,12.25 1,12.25 ; 1,15.75 2.1,15.75 2.1,16.25 1,16.25 ; 1,19.75 2.1,19.75 2.1,20.25 1,20.25 ; 1,23.75 2.1,23.75 2.1,24.25 1,24.25 ; 1,27.75 2.1,27.75 2.1,28.25 1,28.25 ; 1,31.75 2.1,31.75 2.1,32.25 1,32.25 ; 1,35.75 2.1,35.75 2.1,36.25 1,36.25 ; -1,38.25 -1,-39 1,-39 1,39 -0.25,39 -1,38.25
  text "'.Designator'" at 0.84,-4.047 h1
Top Courtyard:
  lines w0.254: -2.85,-39.5 2.85,-39.5 2.85,39.5 -2.85,39.5 -2.85,-39.5
Top Designator:
  text ".Designator" at -7.618,-0.508 h1.52

## PinHeader_1x39_P2.00mm_Vertical_SMD_Pin1Right [mm]
pads (39):
  rect 2.35x0.85 smd: 1(1.175,38) 2(-1.175,36) 3(1.175,34) 4(-1.175,32) 5(1.175,30) 6(-1.175,28) 7(1.175,26) 8(-1.175,24) 9(1.175,22) 10(-1.175,20) 11(1.175,18) 12(-1.175,16) 13(1.175,14) 14(-1.175,12) 15(1.175,10) 16(-1.175,8) 17(1.175,6) 18(-1.175,4) 19(1.175,2) 20(-1.175,0) 21(1.175,-2) 22(-1.175,-4) 23(1.175,-6) 24(-1.175,-8) 25(1.175,-10) 26(-1.175,-12) 27(1.175,-14) 28(-1.175,-16) 29(1.175,-18) 30(-1.175,-20) 31(1.175,-22) 32(-1.175,-24) 33(1.175,-26) 34(-1.175,-28) 35(1.175,-30) 36(-1.175,-32) 37(1.175,-34) 38(-1.175,-36) 39(1.175,-38)
F.SilkS:
  lines w0.254: -1.11,-38.735 -1.11,-39.11 ; -1.11,-36.735 -1.11,-39.11 ; -1.11,-35.265 -1.11,-32.735 ; -1.11,-31.265 -1.11,-28.735 ; -1.11,-27.265 -1.11,-24.735 ; -1.11,-23.265 -1.11,-20.735 ; -1.11,-19.265 -1.11,-16.735 ; -1.11,-15.265 -1.11,-12.735 ; -1.11,-11.265 -1.11,-8.735 ; -1.11,-7.265 -1.11,-4.735 ; -1.11,-3.265 -1.11,-0.735 ; -1.11,0.735 -1.11,3.265 ; -1.11,4.735 -1.11,7.265 ; -1.11,8.735 -1.11,11.265 ; -1.11,12.735 -1.11,15.265 ; -1.11,16.735 -1.11,19.265 ; -1.11,20.735 -1.11,23.265 ; -1.11,24.735 -1.11,27.265 ; -1.11,28.735 -1.11,31.265 ; -1.11,32.735 -1.11,35.265 ; -1.11,38.735 -1.11,36.735 -1.11,39.11 1.11,39.11 1.11,38.735 2.29,38.735 ; 1.11,-39.11 -1.11,-39.11 ; 1.11,-37.265 1.11,-34.735 ; 1.11,-33.265 1.11,-30.735 ; 1.11,-29.265 1.11,-26.735 ; 1.11,-25.265 1.11,-22.735 ; 1.11,-21.265 1.11,-18.735 ; 1.11,-17.265 1.11,-14.735 ; 1.11,-13.265 1.11,-10.735 ; 1.11,-9.265 1.11,-6.735 ; 1.11,-5.265 1.11,-2.735 ; 1.11,-1.265 1.11,1.265 ; 1.11,2.735 1.11,5.265 ; 1.11,6.735 1.11,9.265 ; 1.11,10.735 1.11,13.265 ; 1.11,14.735 1.11,17.265 ; 1.11,18.735 1.11,21.265 ; 1.11,22.735 1.11,25.265 ; 1.11,26.735 1.11,29.265 ; 1.11,30.735 1.11,33.265 ; 1.11,34.735 1.11,37.265
Top Assembly:
  lines w0.254: -1,-36.25 -2.1,-36.25 -2.1,-35.75 -1,-35.75 ; -1,-32.25 -2.1,-32.25 -2.1,-31.75 -1,-31.75 ; -1,-28.25 -2.1,-28.25 -2.1,-27.75 -1,-27.75 ; -1,-24.25 -2.1,-24.25 -2.1,-23.75 -1,-23.75 ; -1,-20.25 -2.1,-20.25 -2.1,-19.75 -1,-19.75 ; -1,-16.25 -2.1,-16.25 -2.1,-15.75 -1,-15.75 ; -1,-12.25 -2.1,-12.25 -2.1,-11.75 -1,-11.75 ; -1,-8.25 -2.1,-8.25 -2.1,-7.75 -1,-7.75 ; -1,-4.25 -2.1,-4.25 -2.1,-3.75 -1,-3.75 ; -1,-0.25 -2.1,-0.25 -2.1,0.25 -1,0.25 ; -1,3.75 -2.1,3.75 -2.1,4.25 -1,4.25 ; -1,7.75 -2.1,7.75 -2.1,8.25 -1,8.25 ; -1,11.75 -2.1,11.75 -2.1,12.25 -1,12.25 ; -1,15.75 -2.1,15.75 -2.1,16.25 -1,16.25 ; -1,19.75 -2.1,19.75 -2.1,20.25 -1,20.25 ; -1,23.75 -2.1,23.75 -2.1,24.25 -1,24.25 ; -1,27.75 -2.1,27.75 -2.1,28.25 -1,28.25 ; -1,31.75 -2.1,31.75 -2.1,32.25 -1,32.25 ; -1,35.75 -2.1,35.75 -2.1,36.25 -1,36.25 ; 1,-38.25 2.1,-38.25 2.1,-37.75 1,-37.75 ; 1,-34.25 2.1,-34.25 2.1,-33.75 1,-33.75 ; 1,-30.25 2.1,-30.25 2.1,-29.75 1,-29.75 ; 1,-26.25 2.1,-26.25 2.1,-25.75 1,-25.75 ; 1,-22.25 2.1,-22.25 2.1,-21.75 1,-21.75 ; 1,-18.25 2.1,-18.25 2.1,-17.75 1,-17.75 ; 1,-14.25 2.1,-14.25 2.1,-13.75 1,-13.75 ; 1,-10.25 2.1,-10.25 2.1,-9.75 1,-9.75 ; 1,-6.25 2.1,-6.25 2.1,-5.75 1,-5.75 ; 1,-2.25 2.1,-2.25 2.1,-1.75 1,-1.75 ; 1,1.75 2.1,1.75 2.1,2.25 1,2.25 ; 1,5.75 2.1,5.75 2.1,6.25 1,6.25 ; 1,9.75 2.1,9.75 2.1,10.25 1,10.25 ; 1,13.75 2.1,13.75 2.1,14.25 1,14.25 ; 1,17.75 2.1,17.75 2.1,18.25 1,18.25 ; 1,21.75 2.1,21.75 2.1,22.25 1,22.25 ; 1,25.75 2.1,25.75 2.1,26.25 1,26.25 ; 1,29.75 2.1,29.75 2.1,30.25 1,30.25 ; 1,33.75 2.1,33.75 2.1,34.25 1,34.25 ; 1,37.75 2.1,37.75 2.1,38.25 1,38.25 ; 1,38.25 1,-39 -1,-39 -1,39 0.25,39 1,38.25
  text "'.Designator'" at 0.84,-4.047 h1
Top Courtyard:
  lines w0.254: -2.85,-39.5 2.85,-39.5 2.85,39.5 -2.85,39.5 -2.85,-39.5
Top Designator:
  text ".Designator" at -7.618,-0.508 h1.52

## PinHeader_1x40_P2.00mm_Horizontal [mm]
pads (40):
  rect 1.35x1.35 hole 0.8: 1(0,0)
  round 1.35 hole 0.8: 2(0,-2) 3(0,-4) 4(0,-6) 5(0,-8) 6(0,-10) 7(0,-12) 8(0,-14) 9(0,-16) 10(0,-18) 11(0,-20) 12(0,-22) 13(0,-24) 14(0,-26) 15(0,-28) 16(0,-30) 17(0,-32) 18(0,-34) 19(0,-36) 20(0,-38) 21(0,-40) 22(0,-42) 23(0,-44) 24(0,-46) 25(0,-48) 26(0,-50) 27(0,-52) 28(0,-54) 29(0,-56) 30(0,-58) 31(0,-60) 32(0,-62) 33(0,-64) 34(0,-66) 35(0,-68) 36(0,-70) 37(0,-72) 38(0,-74) 39(0,-76) 40(0,-78)
F.SilkS:
  drawing of 246 lines, arcs and shapes, not listed
Top Assembly:
  drawing of 245 lines, arcs and shapes, not listed
  text "'.Designator'" at 3.006,-42.642 h0.9
Top Courtyard:
  lines w0.254: -1.5,-79.5 7.7,-79.5 7.7,1.5 -1.5,1.5 -1.5,-79.5
Top Designator:
  text ".Designator" at -4.518,-39.508 h1.52

## PinHeader_1x40_P2.00mm_Vertical [mm]
pads (40):
  rect 1.35x1.35 hole 0.8: 1(0,0)
  round 1.35 hole 0.8: 2(0,-2) 3(0,-4) 4(0,-6) 5(0,-8) 6(0,-10) 7(0,-12) 8(0,-14) 9(0,-16) 10(0,-18) 11(0,-20) 12(0,-22) 13(0,-24) 14(0,-26) 15(0,-28) 16(0,-30) 17(0,-32) 18(0,-34) 19(0,-36) 20(0,-38) 21(0,-40) 22(0,-42) 23(0,-44) 24(0,-46) 25(0,-48) 26(0,-50) 27(0,-52) 28(0,-54) 29(0,-56) 30(0,-58) 31(0,-60) 32(0,-62) 33(0,-64) 34(0,-66) 35(0,-68) 36(0,-70) 37(0,-72) 38(0,-74) 39(0,-76) 40(0,-78)
F.SilkS:
  lines w0.254: -1.11,0 -1.11,1.11 0,1.11 ; -1.11,-79.11 1.11,-79.11 1.11,-1 -1.11,-1 -1.11,-79.11
Top Assembly:
  lines w0.254: -1,-79 1,-79 1,1 -0.5,1 -1,0.5 -1,-79
  text "'.Designator'" at 0.84,-43.047 h1
Top Courtyard:
  lines w0.254: -1.5,-79.5 1.5,-79.5 1.5,1.5 -1.5,1.5 -1.5,-79.5
Top Designator:
  text ".Designator" at -7.618,-39.508 h1.52

## PinHeader_1x40_P2.00mm_Vertical_SMD_Pin1Left [mm]
pads (40):
  rect 2.35x0.85 smd: 1(-1.175,39) 2(1.175,37) 3(-1.175,35) 4(1.175,33) 5(-1.175,31) 6(1.175,29) 7(-1.175,27) 8(1.175,25) 9(-1.175,23) 10(1.175,21) 11(-1.175,19) 12(1.175,17) 13(-1.175,15) 14(1.175,13) 15(-1.175,11) 16(1.175,9) 17(-1.175,7) 18(1.175,5) 19(-1.175,3) 20(1.175,1) 21(-1.175,-1) 22(1.175,-3) 23(-1.175,-5) 24(1.175,-7) 25(-1.175,-9) 26(1.175,-11) 27(-1.175,-13) 28(1.175,-15) 29(-1.175,-17) 30(1.175,-19) 31(-1.175,-21) 32(1.175,-23) 33(-1.175,-25) 34(1.175,-27) 35(-1.175,-29) 36(1.175,-31) 37(-1.175,-33) 38(1.175,-35) 39(-1.175,-37) 40(1.175,-39)
F.SilkS:
  lines w0.254: -2.29,39.735 -1.11,39.735 -1.11,40.11 1.11,40.11 ; -1.11,-37.735 -1.11,-40.11 1.11,-40.11 1.11,-39.735 ; -1.11,-36.265 -1.11,-33.735 ; -1.11,-32.265 -1.11,-29.735 ; -1.11,-28.265 -1.11,-25.735 ; -1.11,-24.265 -1.11,-21.735 ; -1.11,-20.265 -1.11,-17.735 ; -1.11,-16.265 -1.11,-13.735 ; -1.11,-12.265 -1.11,-9.735 ; -1.11,-8.265 -1.11,-5.735 ; -1.11,-4.265 -1.11,-1.735 ; -1.11,-0.265 -1.11,2.265 ; -1.11,3.735 -1.11,6.265 ; -1.11,7.735 -1.11,10.265 ; -1.11,11.735 -1.11,14.265 ; -1.11,15.735 -1.11,18.265 ; -1.11,19.735 -1.11,22.265 ; -1.11,23.735 -1.11,26.265 ; -1.11,27.735 -1.11,30.265 ; -1.11,31.735 -1.11,34.265 ; -1.11,35.735 -1.11,38.265 ; 1.11,-38.265 1.11,-35.735 ; 1.11,-34.265 1.11,-31.735 ; 1.11,-30.265 1.11,-27.735 ; 1.11,-26.265 1.11,-23.735 ; 1.11,-22.265 1.11,-19.735 ; 1.11,-18.265 1.11,-15.735 ; 1.11,-14.265 1.11,-11.735 ; 1.11,-10.265 1.11,-7.735 ; 1.11,-6.265 1.11,-3.735 ; 1.11,-2.265 1.11,0.265 ; 1.11,1.735 1.11,4.265 ; 1.11,5.735 1.11,8.265 ; 1.11,9.735 1.11,12.265 ; 1.11,13.735 1.11,16.265 ; 1.11,17.735 1.11,20.265 ; 1.11,21.735 1.11,24.265 ; 1.11,25.735 1.11,28.265 ; 1.11,29.735 1.11,32.265 ; 1.11,33.735 1.11,36.265 ; 1.11,37.735 1.11,39.735
Top Assembly:
  lines w0.254: -1,-37.25 -2.1,-37.25 -2.1,-36.75 -1,-36.75 ; -1,-33.25 -2.1,-33.25 -2.1,-32.75 -1,-32.75 ; -1,-29.25 -2.1,-29.25 -2.1,-28.75 -1,-28.75 ; -1,-25.25 -2.1,-25.25 -2.1,-24.75 -1,-24.75 ; -1,-21.25 -2.1,-21.25 -2.1,-20.75 -1,-20.75 ; -1,-17.25 -2.1,-17.25 -2.1,-16.75 -1,-16.75 ; -1,-13.25 -2.1,-13.25 -2.1,-12.75 -1,-12.75 ; -1,-9.25 -2.1,-9.25 -2.1,-8.75 -1,-8.75 ; -1,-5.25 -2.1,-5.25 -2.1,-4.75 -1,-4.75 ; -1,-1.25 -2.1,-1.25 -2.1,-0.75 -1,-0.75 ; -1,2.75 -2.1,2.75 -2.1,3.25 -1,3.25 ; -1,6.75 -2.1,6.75 -2.1,7.25 -1,7.25 ; -1,10.75 -2.1,10.75 -2.1,11.25 -1,11.25 ; -1,14.75 -2.1,14.75 -2.1,15.25 -1,15.25 ; -1,18.75 -2.1,18.75 -2.1,19.25 -1,19.25 ; -1,22.75 -2.1,22.75 -2.1,23.25 -1,23.25 ; -1,26.75 -2.1,26.75 -2.1,27.25 -1,27.25 ; -1,30.75 -2.1,30.75 -2.1,31.25 -1,31.25 ; -1,34.75 -2.1,34.75 -2.1,35.25 -1,35.25 ; -1,38.75 -2.1,38.75 -2.1,39.25 -1,39.25 ; 1,-39.25 2.1,-39.25 2.1,-38.75 1,-38.75 ; 1,-35.25 2.1,-35.25 2.1,-34.75 1,-34.75 ; 1,-31.25 2.1,-31.25 2.1,-30.75 1,-30.75 ; 1,-27.25 2.1,-27.25 2.1,-26.75 1,-26.75 ; 1,-23.25 2.1,-23.25 2.1,-22.75 1,-22.75 ; 1,-19.25 2.1,-19.25 2.1,-18.75 1,-18.75 ; 1,-15.25 2.1,-15.25 2.1,-14.75 1,-14.75 ; 1,-11.25 2.1,-11.25 2.1,-10.75 1,-10.75 ; 1,-7.25 2.1,-7.25 2.1,-6.75 1,-6.75 ; 1,-3.25 2.1,-3.25 2.1,-2.75 1,-2.75 ; 1,0.75 2.1,0.75 2.1,1.25 1,1.25 ; 1,4.75 2.1,4.75 2.1,5.25 1,5.25 ; 1,8.75 2.1,8.75 2.1,9.25 1,9.25 ; 1,12.75 2.1,12.75 2.1,13.25 1,13.25 ; 1,16.75 2.1,16.75 2.1,17.25 1,17.25 ; 1,20.75 2.1,20.75 2.1,21.25 1,21.25 ; 1,24.75 2.1,24.75 2.1,25.25 1,25.25 ; 1,28.75 2.1,28.75 2.1,29.25 1,29.25 ; 1,32.75 2.1,32.75 2.1,33.25 1,33.25 ; 1,36.75 2.1,36.75 2.1,37.25 1,37.25 ; -1,39.25 -1,-40 1,-40 1,40 -0.25,40 -1,39.25
  text "'.Designator'" at 0.84,-4.047 h1
Top Courtyard:
  lines w0.254: -2.85,-40.5 2.85,-40.5 2.85,40.5 -2.85,40.5 -2.85,-40.5
Top Designator:
  text ".Designator" at -7.618,-0.508 h1.52

## PinHeader_1x40_P2.00mm_Vertical_SMD_Pin1Right [mm]
pads (40):
  rect 2.35x0.85 smd: 1(1.175,39) 2(-1.175,37) 3(1.175,35) 4(-1.175,33) 5(1.175,31) 6(-1.175,29) 7(1.175,27) 8(-1.175,25) 9(1.175,23) 10(-1.175,21) 11(1.175,19) 12(-1.175,17) 13(1.175,15) 14(-1.175,13) 15(1.175,11) 16(-1.175,9) 17(1.175,7) 18(-1.175,5) 19(1.175,3) 20(-1.175,1) 21(1.175,-1) 22(-1.175,-3) 23(1.175,-5) 24(-1.175,-7) 25(1.175,-9) 26(-1.175,-11) 27(1.175,-13) 28(-1.175,-15) 29(1.175,-17) 30(-1.175,-19) 31(1.175,-21) 32(-1.175,-23) 33(1.175,-25) 34(-1.175,-27) 35(1.175,-29) 36(-1.175,-31) 37(1.175,-33) 38(-1.175,-35) 39(1.175,-37) 40(-1.175,-39)
F.SilkS:
  lines w0.254: -1.11,-39.735 -1.11,-40.11 1.11,-40.11 1.11,-37.735 ; -1.11,-38.265 -1.11,-35.735 ; -1.11,-34.265 -1.11,-31.735 ; -1.11,-30.265 -1.11,-27.735 ; -1.11,-26.265 -1.11,-23.735 ; -1.11,-22.265 -1.11,-19.735 ; -1.11,-18.265 -1.11,-15.735 ; -1.11,-14.265 -1.11,-11.735 ; -1.11,-10.265 -1.11,-7.735 ; -1.11,-6.265 -1.11,-3.735 ; -1.11,-2.265 -1.11,0.265 ; -1.11,1.735 -1.11,4.265 ; -1.11,5.735 -1.11,8.265 ; -1.11,9.735 -1.11,12.265 ; -1.11,13.735 -1.11,16.265 ; -1.11,17.735 -1.11,20.265 ; -1.11,21.735 -1.11,24.265 ; -1.11,25.735 -1.11,28.265 ; -1.11,29.735 -1.11,32.265 ; -1.11,33.735 -1.11,36.265 ; -1.11,39.735 -1.11,37.735 -1.11,40.11 1.11,40.11 1.11,39.735 2.29,39.735 ; 1.11,-36.265 1.11,-33.735 ; 1.11,-32.265 1.11,-29.735 ; 1.11,-28.265 1.11,-25.735 ; 1.11,-24.265 1.11,-21.735 ; 1.11,-20.265 1.11,-17.735 ; 1.11,-16.265 1.11,-13.735 ; 1.11,-12.265 1.11,-9.735 ; 1.11,-8.265 1.11,-5.735 ; 1.11,-4.265 1.11,-1.735 ; 1.11,-0.265 1.11,2.265 ; 1.11,3.735 1.11,6.265 ; 1.11,7.735 1.11,10.265 ; 1.11,11.735 1.11,14.265 ; 1.11,15.735 1.11,18.265 ; 1.11,19.735 1.11,22.265 ; 1.11,23.735 1.11,26.265 ; 1.11,27.735 1.11,30.265 ; 1.11,31.735 1.11,34.265 ; 1.11,35.735 1.11,38.265
Top Assembly:
  lines w0.254: -1,-39.25 -2.1,-39.25 -2.1,-38.75 -1,-38.75 ; -1,-35.25 -2.1,-35.25 -2.1,-34.75 -1,-34.75 ; -1,-31.25 -2.1,-31.25 -2.1,-30.75 -1,-30.75 ; -1,-27.25 -2.1,-27.25 -2.1,-26.75 -1,-26.75 ; -1,-23.25 -2.1,-23.25 -2.1,-22.75 -1,-22.75 ; -1,-19.25 -2.1,-19.25 -2.1,-18.75 -1,-18.75 ; -1,-15.25 -2.1,-15.25 -2.1,-14.75 -1,-14.75 ; -1,-11.25 -2.1,-11.25 -2.1,-10.75 -1,-10.75 ; -1,-7.25 -2.1,-7.25 -2.1,-6.75 -1,-6.75 ; -1,-3.25 -2.1,-3.25 -2.1,-2.75 -1,-2.75 ; -1,0.75 -2.1,0.75 -2.1,1.25 -1,1.25 ; -1,4.75 -2.1,4.75 -2.1,5.25 -1,5.25 ; -1,8.75 -2.1,8.75 -2.1,9.25 -1,9.25 ; -1,12.75 -2.1,12.75 -2.1,13.25 -1,13.25 ; -1,16.75 -2.1,16.75 -2.1,17.25 -1,17.25 ; -1,20.75 -2.1,20.75 -2.1,21.25 -1,21.25 ; -1,24.75 -2.1,24.75 -2.1,25.25 -1,25.25 ; -1,28.75 -2.1,28.75 -2.1,29.25 -1,29.25 ; -1,32.75 -2.1,32.75 -2.1,33.25 -1,33.25 ; -1,36.75 -2.1,36.75 -2.1,37.25 -1,37.25 ; 1,-37.25 2.1,-37.25 2.1,-36.75 1,-36.75 ; 1,-33.25 2.1,-33.25 2.1,-32.75 1,-32.75 ; 1,-29.25 2.1,-29.25 2.1,-28.75 1,-28.75 ; 1,-25.25 2.1,-25.25 2.1,-24.75 1,-24.75 ; 1,-21.25 2.1,-21.25 2.1,-20.75 1,-20.75 ; 1,-17.25 2.1,-17.25 2.1,-16.75 1,-16.75 ; 1,-13.25 2.1,-13.25 2.1,-12.75 1,-12.75 ; 1,-9.25 2.1,-9.25 2.1,-8.75 1,-8.75 ; 1,-5.25 2.1,-5.25 2.1,-4.75 1,-4.75 ; 1,-1.25 2.1,-1.25 2.1,-0.75 1,-0.75 ; 1,2.75 2.1,2.75 2.1,3.25 1,3.25 ; 1,6.75 2.1,6.75 2.1,7.25 1,7.25 ; 1,10.75 2.1,10.75 2.1,11.25 1,11.25 ; 1,14.75 2.1,14.75 2.1,15.25 1,15.25 ; 1,18.75 2.1,18.75 2.1,19.25 1,19.25 ; 1,22.75 2.1,22.75 2.1,23.25 1,23.25 ; 1,26.75 2.1,26.75 2.1,27.25 1,27.25 ; 1,30.75 2.1,30.75 2.1,31.25 1,31.25 ; 1,34.75 2.1,34.75 2.1,35.25 1,35.25 ; 1,38.75 2.1,38.75 2.1,39.25 1,39.25 ; 1,39.25 1,-40 -1,-40 -1,40 0.25,40 1,39.25
  text "'.Designator'" at 0.84,-4.047 h1
Top Courtyard:
  lines w0.254: -2.85,-40.5 2.85,-40.5 2.85,40.5 -2.85,40.5 -2.85,-40.5
Top Designator:
  text ".Designator" at -7.618,-0.508 h1.52

## PinHeader_2x01_P2.00mm_Horizontal [mm]
pads (2):
  rect 1.35x1.35 hole 0.8: 1(0,0)
  round 1.35 hole 0.8: 2(2,0)
F.SilkS:
  lines w0.254: -1,0 -1,1 0,1 ; 0.985,-0.36 1.083,-0.36 ; 0.985,0.36 1.083,0.36 ; 2.917,-0.36 3.39,-0.36 ; 2.917,0.36 3.39,0.36 ; 3.39,-1.11 5.11,-1.11 5.11,1.11 3.39,1.11 3.39,-1.11 ; 5.11,-0.36 9.31,-0.36 9.31,0.36 5.11,0.36 5.11,-0.36
Top Assembly:
  lines w0.254: 3.5,-0.25 -0.25,-0.25 -0.25,0.25 3.5,0.25 ; 5,-0.25 9.2,-0.25 9.2,0.25 5,0.25 ; 3.5,-1 5,-1 5,1 3.875,1 3.5,0.625 3.5,-1
  text "'.Designator'" at 5.006,-3.642 h0.9
Top Courtyard:
  lines w0.254: -1.5,-1.5 9.7,-1.5 9.7,1.5 -1.5,1.5 -1.5,-1.5
Top Designator:
  text ".Designator" at -3.518,-0.643 h1.52

## PinHeader_2x01_P2.00mm_Vertical [mm]
pads (2):
  rect 1.35x1.35 hole 0.8: 1(0,0)
  round 1.35 hole 0.8: 2(2,0)
F.SilkS:
  lines w0.254: -1.11,0 -1.11,1.11 0,1.11 ; -1.11,-1.11 3.11,-1.11 3.11,1.11 1,1.11 1,-1 -1.11,-1 -1.11,-1.11
Top Assembly:
  lines w0.254: -1,-1 3,-1 3,1 0,1 -1,0 -1,-1
  text "'.Designator'" at 1.84,-4.047 h1
Top Courtyard:
  lines w0.254: -1.5,-1.5 3.5,-1.5 3.5,1.5 -1.5,1.5 -1.5,-1.5
Top Designator:
  text ".Designator" at -6.618,-0.658 h1.52